# Altium footprint library SmartCardReader.PcbLib: 28 footprints (part 2 of 2)
Each footprint in its own frame and in the unit in brackets; x right, y up, seen from the top. Pads: shape width x height; smd on the part's side, far side on the other; paste and mask are expansions set on the pad; w line width, h text height; cw(c..) or ccw(c..) is an arc to the next point about the centre after c.
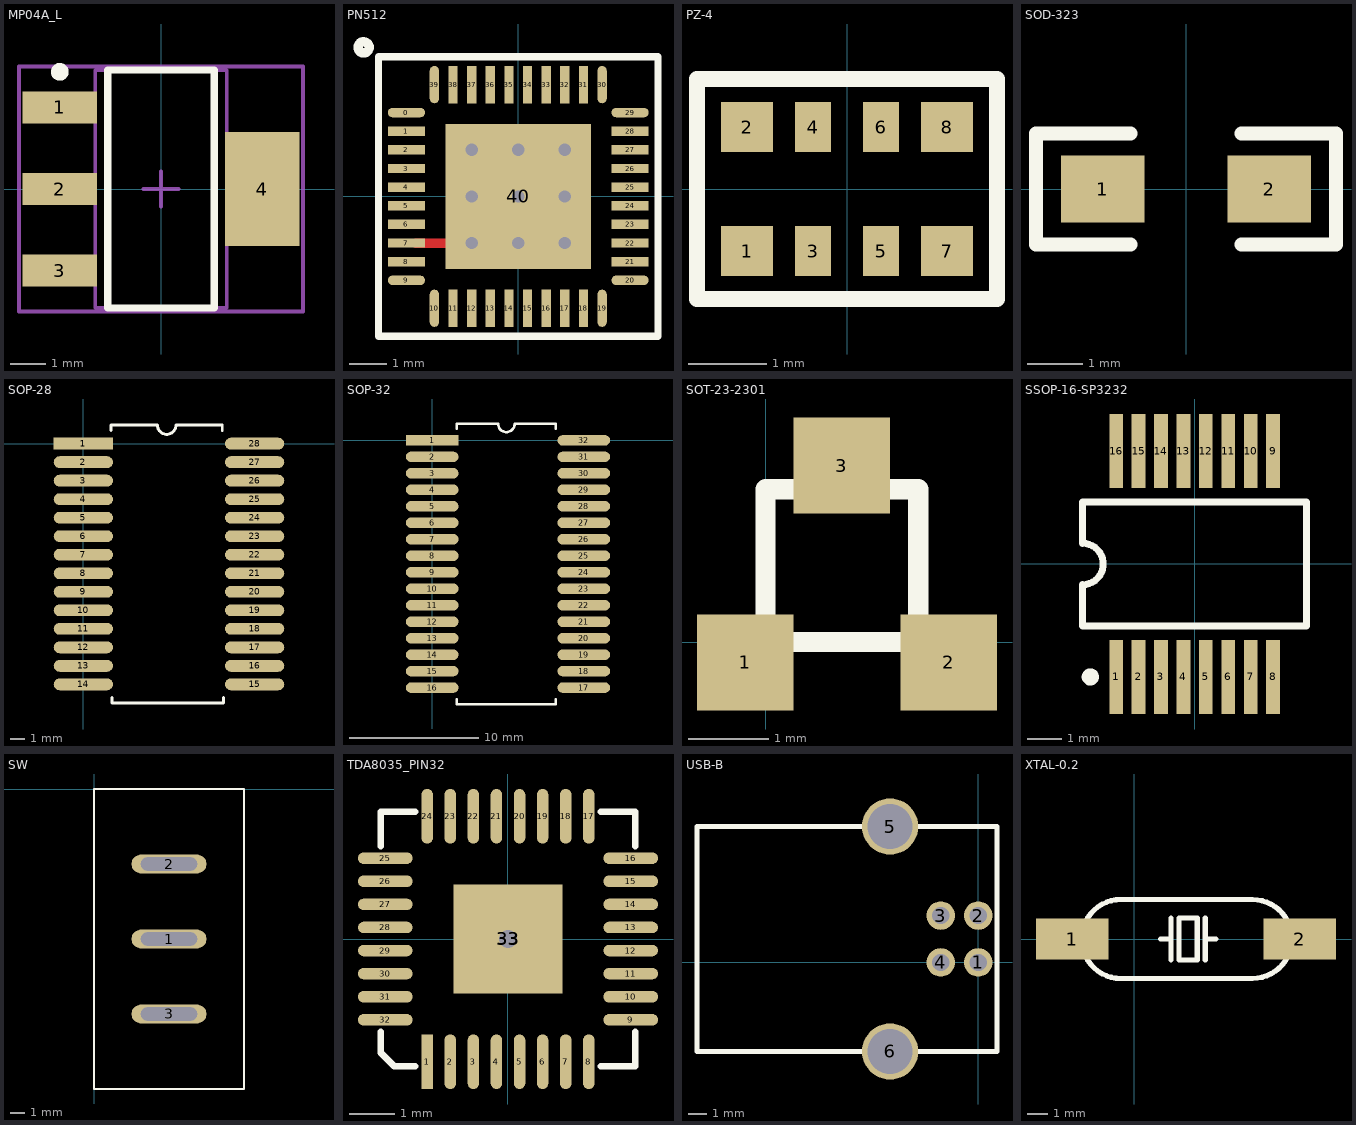
[diagram p1: the footprints below, top view; thin cyan lines are the x and y axes]

## MP04A_L [mm] "SOT223, 4-Leads, Body 6.5x3.5mm, Pitch 2.3mm, Lead Span 7mm, IPC High Density"
height 1.8
pads (4):
  rect 2.1x0.9 smd: 1(-2.85,2.3) 2(-2.85,0) 3(-2.85,-2.3)
  rect 2.1x3.2 smd: 4(2.85,0)
Top Overlay:
  circle w0.25: c-2.85,3.3 r0.125
  lines w0.2: -1.5,-3.35 1.5,-3.35 1.5,3.35 -1.5,3.35 -1.5,-3.35
Mechanical 13:
  lines w0.1: -1.85,-3.35 1.85,-3.35 1.85,3.35 -1.85,3.35 -1.85,-3.35
Mechanical 15:
  lines w0.1: -0.5,0 0.5,0 ; 0,-0.5 0,0.5 ; -4,-3.45 4,-3.45 4,3.45 -4,3.45 -4,-3.45
3D body: height 1.8, standoff 0, extent -1.85,-3.35 1.85,3.35

## PN512 [mm]
height 0.85
pads (41):
  oval 1x0.25 smd mask+0.05: 0(-3,2.25) 9(-3,-2.25) 20(3,-2.25) 29(3,2.25)
  rect 1x0.25 smd: 1(-3,1.75) 2(-3,1.25) 3(-3,0.75) 4(-3,0.25) 5(-3,-0.25) 6(-3,-0.75) 7(-3,-1.25) 8(-3,-1.75) 21(3,-1.75) 22(3,-1.25) 23(3,-0.75) 24(3,-0.25) 25(3,0.25) 26(3,0.75) 27(3,1.25) 28(3,1.75)
  oval 0.25x1 smd mask+0.05: 10(-2.25,-3) 19(2.25,-3) 30(2.25,3) 39(-2.25,3)
  rect 0.25x1 smd: 11(-1.75,-3) 12(-1.25,-3) 13(-0.75,-3) 14(-0.25,-3) 15(0.25,-3) 16(0.75,-3) 17(1.25,-3) 18(1.75,-3) 31(1.75,3) 32(1.25,3) 33(0.75,3) 34(0.25,3) 35(-0.25,3) 36(-0.75,3) 37(-1.25,3) 38(-1.75,3)
  rect 3.9x3.9 smd: 40(0,0)
via -1.25,1.25 diameter 0.66 hole 0.33
via -1.25,0 diameter 0.66 hole 0.33
via -1.25,-1.25 diameter 0.66 hole 0.33
via 0,-1.25 diameter 0.66 hole 0.33
via 1.25,-1.25 diameter 0.66 hole 0.33
via 1.25,0 diameter 0.66 hole 0.33
via 1.25,1.25 diameter 0.66 hole 0.33
via 0,1.25 diameter 0.66 hole 0.33
via 0,0 diameter 0.66 hole 0.33
Top Layer:
  lines w0.254: -2.75,-1.25 -1.25,-1.25 ; -1.25,1.25 0,1.25 1.25,1.25 1.25,0 ; -1.25,-1.25 0,-1.25 1.25,-1.25 1.25,0 ; -1.25,-1.25 -1.25,0 0,0 1.25,0
Top Overlay:
  circle w0.25: c-4.15,4 r0.15
  lines w0.2: -3.75,-3.75 3.75,-3.75 3.75,3.75 -3.75,3.75 -3.75,-3.75

## PZ-4 [mil] "WWW.OURAVR.COM"
pads (8):
  rect 26x25 smd: 1(-50,-31) 2(-50,31) 7(50,-31) 8(50,31)
  rect 18x25 smd: 3(-17,-31) 4(-17,31) 5(17,-31) 6(17,31)
Top Overlay:
  lines w8: -75,-55 -75,55 75,55 75,-55 -75,-55

## SOD-323 [mm]
pads (2):
  rect 1.5x1.2 smd: 1(-1.5,0) 2(1.5,0)
Top Overlay:
  lines w0.254: -1,-1 -2.7,-1 -2.7,1 -2.5,1 -1,1 ; 1,-1 2.7,-1 2.7,1 1,1

## SOP-28 [mil]
pads (28):
  rect 160x32 smd: 1(0,0)
  oval 160x32 smd: 2(0,-50) 3(0,-100) 4(0,-150) 5(0,-200) 6(0,-250) 7(0,-300) 8(0,-350) 9(0,-400) 10(0,-450) 11(0,-500) 12(0,-550) 13(0,-600) 14(0,-650) 15(462.6,-650) 16(462.6,-600) 17(462.6,-550) 18(462.6,-500) 19(462.6,-450) 20(462.6,-400) 21(462.6,-350) 22(462.6,-300) 23(462.6,-250) 24(462.6,-200) 25(462.6,-150) 26(462.6,-100) 27(462.6,-50) 28(462.6,0)
Top Overlay:
  lines w7.87: 75,35 75,50 200,50 ccw(c225,50) 250,50 375,50 375,35 ; 77.95,-685 77.95,-700 377.95,-700 377.95,-685

## SOP-32 [mil]
pads (32):
  rect 160x32 smd: 1(0,0)
  oval 160x32 smd: 2(0,-50) 3(0,-100) 4(0,-150) 5(0,-200) 6(0,-250) 7(0,-300) 8(0,-350) 9(0,-400) 10(0,-450) 11(0,-500) 12(0,-550) 13(0,-600) 14(0,-650) 15(0,-700) 16(0,-750) 17(460,-750) 18(460,-700) 19(460,-650) 20(460,-600) 21(460,-550) 22(460,-500) 23(460,-450) 24(460,-400) 25(460,-350) 26(460,-300) 27(460,-250) 28(460,-200) 29(460,-150) 30(460,-100) 31(460,-50) 32(460,0)
Top Overlay:
  lines w7.87: 75,-785 75,-800 375,-800 375,-785 ; 75,35 75,50 200,50 ccw(c225,50) 250,50 375,50 375,35

## SOT-23-2301 [mm]
pads (3):
  rect 1.2x1.2 smd: 1(-0.254,-0.254) 2(2.286,-0.254) 3(0.95,2.2)
Top Overlay:
  lines w0.254: 0,0 1.905,0 1.905,1.905 0,1.905 0,0

## SSOP-16-SP3232 [mm]
pads (16):
  rect 0.4x2.15 smd: 1(-2.275,-3.275) 2(-1.625,-3.275) 3(-0.975,-3.275) 4(-0.325,-3.275) 5(0.325,-3.275) 6(0.975,-3.275) 7(1.625,-3.275) 8(2.275,-3.275) 9(2.275,3.275) 10(1.625,3.275) 11(0.975,3.275) 12(0.325,3.275) 13(-0.325,3.275) 14(-0.975,3.275) 15(-1.625,3.275) 16(-2.275,3.275)
Top Overlay:
  circle w0.25: c-3.025,-3.275 r0.125
  lines w0.2: -3.25,-1.8 3.25,-1.8 3.25,1.8 -3.25,1.8 -3.25,0.6 cw(c-3.25,0) -3.25,-0.6 -3.25,-1.8

## SW [mil]
pads (3):
  oval 200x50 hole 35 slot 150 at 0 deg: 1(200,-400) 2(200,-200) 3(200,-600)
Top Overlay:
  lines w5: 0,-800 400,-800 400,0 0,0 0,-800

## TDA8035_PIN32 [mm]
pads (34):
  rect 0.254x1.2 smd: 1(-1.777,-2.694)
  oval 0.254x1.2 smd: 2(-1.269,-2.694) 3(-0.761,-2.694) 4(-0.253,-2.694) 5(0.255,-2.694) 6(0.763,-2.694) 7(1.271,-2.694) 8(1.779,-2.694) 17(1.779,2.706) 18(1.271,2.706) 19(0.763,2.706) 20(0.255,2.706) 21(-0.253,2.706) 22(-0.761,2.706) 23(-1.269,2.706) 24(-1.777,2.706)
  oval 1.2x0.254 smd: 9(2.701,-1.772) 10(2.701,-1.264) 11(2.701,-0.756) 12(2.701,-0.248) 13(2.701,0.26) 14(2.701,0.768) 15(2.701,1.276) 16(2.701,1.784) 25(-2.699,1.784) 26(-2.699,1.276) 27(-2.699,0.768) 28(-2.699,0.26) 29(-2.699,-0.248) 30(-2.699,-0.756) 31(-2.699,-1.264) 32(-2.699,-1.772)
  rect 2.4x2.4 smd: 33(0.001,0.006)
  round 0.6 hole 0.4: 33(0.001,0.006)
Top Overlay:
  lines w0.152: -2.799,-2.044 -2.799,-2.494 -2.499,-2.794 -2.049,-2.794 ; -2.799,2.056 -2.799,2.806 -2.049,2.806 ; 2.051,-2.794 2.801,-2.794 2.801,-2.044 ; 2.051,2.806 2.801,2.806 2.801,2.056

## USB-B [mm]
height 8.2
pads (6):
  round 1.524 hole 0.92: 1(0,0) 2(0,2.5) 3(-2,2.5) 4(-2,0)
  round 3 hole 2.4: 5(-4.7,7.25) 6(-4.7,-4.75)
Top Overlay:
  lines w0.254: -15,-4.75 1,-4.75 1,7.25 -15,7.25 -15,-4.75

## XTAL-0.2 [mm]
pads (2):
  rect 3.5x2 smd: 1(-3,0) 2(8,0)
Top Overlay:
  lines w0.254: -0.635,-1.913 cw(c-0.635,0) -0.635,1.913 5.713,1.913 5.715,1.911 ; -0.635,-1.905 5.715,-1.905 ccw(c5.715,0) 5.715,1.905 ; 1.27,0 1.778,0 ; 1.778,-1.016 1.778,1.016 ; 3.429,-1.016 3.429,1.016 ; 3.429,0 3.937,0 ; 2.159,-1.016 2.159,1.016 3.048,1.016 3.048,-1.016 2.159,-1.016